# Altium schematic symbol library kmilo17pet-NSC_Interface.SchLib: 1433 symbols (part 6 of 51)
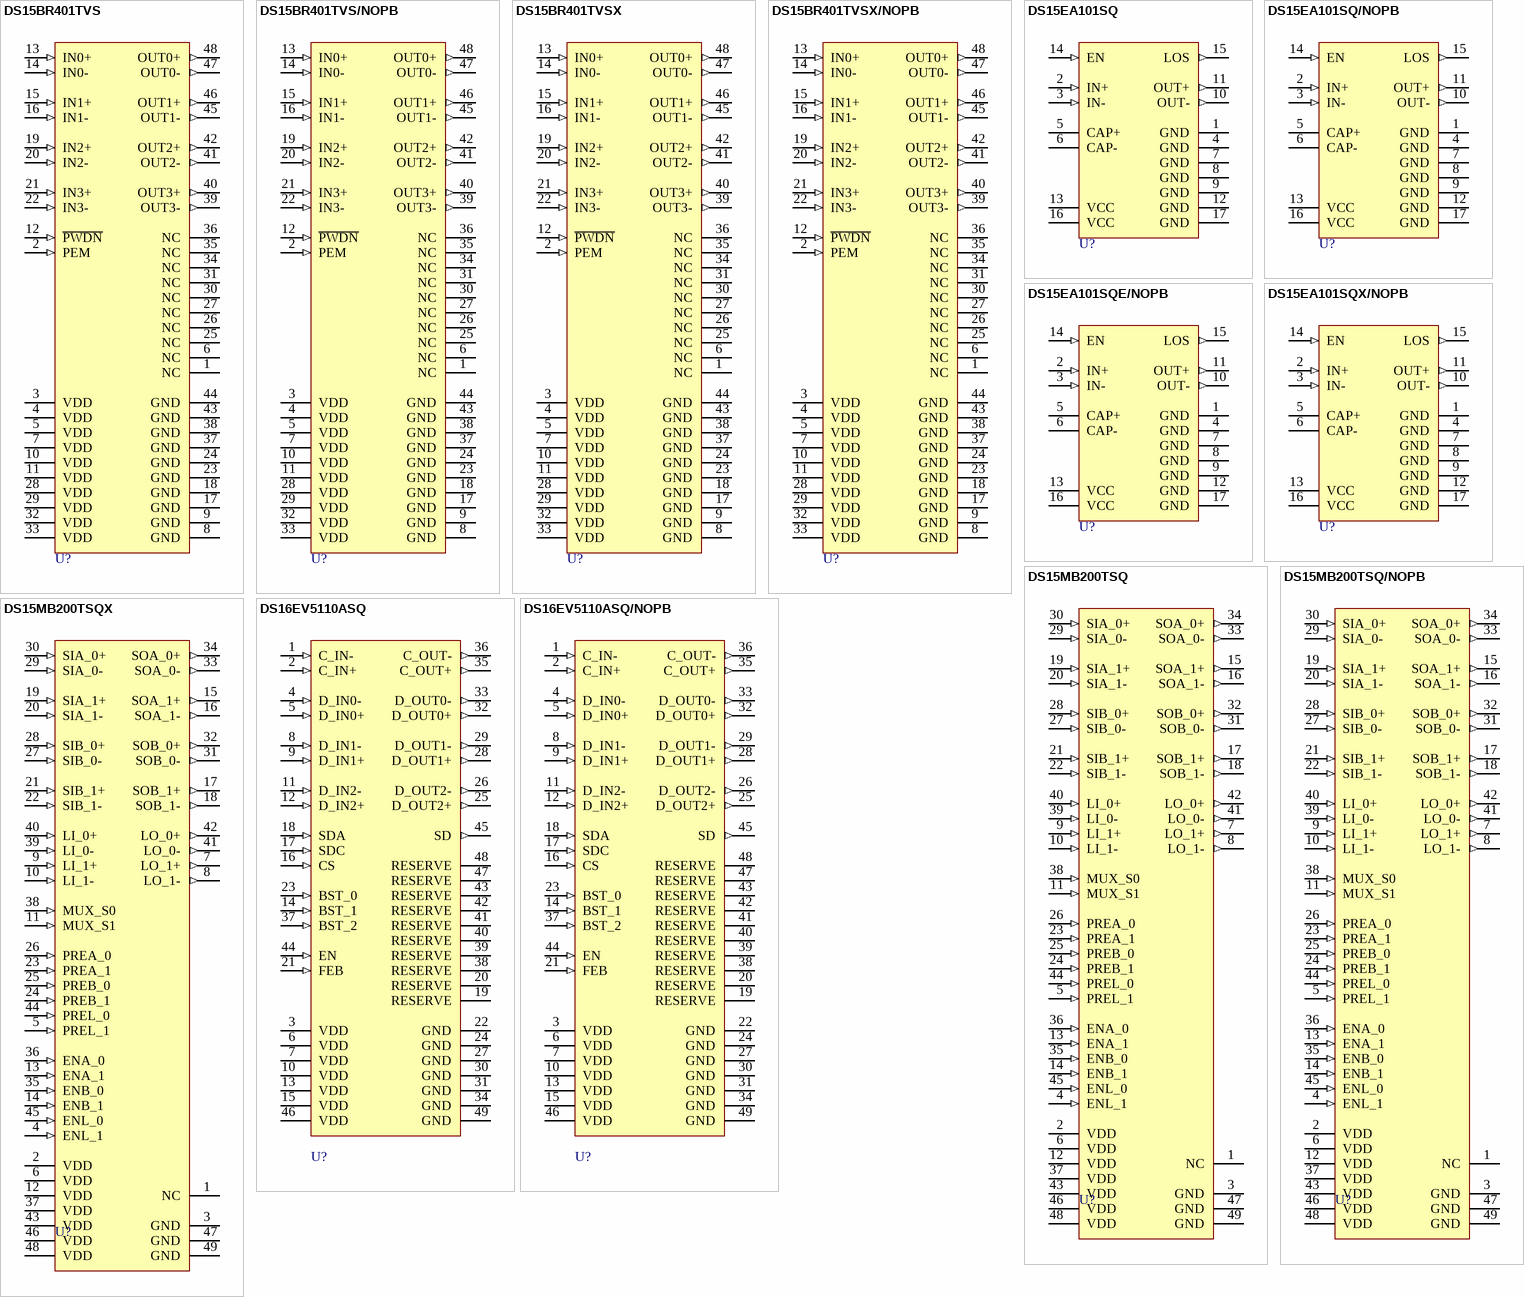
[diagram p129: symbols DS15BR401TVS to DS16EV5110ASQ/NOPB]

## DS15EA101SQE/NOPB
designator U?
0.15 to 1.5 Gbps Adaptive Cable Equalizer with LOS Detection, 16-pin LLP, Pb-Free; PartNumber: DS15EA101SQE/NOPB; Manufacturer: National Semiconductor; PackageTopMarking: NS*UZXYTT*15EA101; PowerWise: N; CompType: Interface IC; High-Reliability: Y; DatasheetVersion: Jan-2009; PackageVersion: revA, Oct-2003; PackageReference: SQA16A; PackageDescription: LLP, Plastic, Quad, 4 x 4 x 0.8mm Body, 16 Lead, 0.5mm Pitch, No Pullback; RoHS: Y; PinCount: 16; ComponentLink1Description: Manufacturer URL; ComponentLink1URL: http://www.national.com/; ComponentLink2Description: DS15EA101 Datasheet; ComponentLink2URL: http://www.national.com/ds/DS/DS15EA101.pdf; ComponentLink3Description: DS15EA101 Web Page; ComponentLink3URL: http://www.national.com/pf/DS/DS15EA101.html; ComponentLink4Description: SQA16A Package Page; ComponentLink4URL: http://www.national.com/packaging/folders/sqa16a.html
footprint SQA16A (QFN, 16-Leads, Body 4x4mm, Pitch 0.5mm, Thermal Pad 2.7x2.7mm, NSC Recommended)
pins: 1 GND (power), 2 IN+ (in), 3 IN- (in), 4 GND (power), 5 CAP+, 6 CAP-, 7 GND (power), 8 GND (power), 9 GND (power), 10 OUT- (out), 11 OUT+ (out), 12 GND (power), 13 VCC (power), 14 EN (in), 15 LOS (out), 16 VCC (power), 17 GND (power)

## DS15EA101SQX/NOPB
designator U?
0.15 to 1.5 Gbps Adaptive Cable Equalizer with LOS Detection, 16-pin LLP, Pb-Free; PartNumber: DS15EA101SQX/NOPB; Manufacturer: National Semiconductor; PackageTopMarking: NS*UZXYTT*15EA101; PowerWise: N; CompType: Interface IC; High-Reliability: Y; DatasheetVersion: Jan-2009; PackageVersion: revA, Oct-2003; PackageReference: SQA16A; PackageDescription: LLP, Plastic, Quad, 4 x 4 x 0.8mm Body, 16 Lead, 0.5mm Pitch, No Pullback; RoHS: Y; PinCount: 16; ComponentLink1Description: Manufacturer URL; ComponentLink1URL: http://www.national.com/; ComponentLink2Description: DS15EA101 Datasheet; ComponentLink2URL: http://www.national.com/ds/DS/DS15EA101.pdf; ComponentLink3Description: DS15EA101 Web Page; ComponentLink3URL: http://www.national.com/pf/DS/DS15EA101.html; ComponentLink4Description: SQA16A Package Page; ComponentLink4URL: http://www.national.com/packaging/folders/sqa16a.html
footprint SQA16A (QFN, 16-Leads, Body 4x4mm, Pitch 0.5mm, Thermal Pad 2.7x2.7mm, NSC Recommended)
pins: 1 GND (power), 2 IN+ (in), 3 IN- (in), 4 GND (power), 5 CAP+, 6 CAP-, 7 GND (power), 8 GND (power), 9 GND (power), 10 OUT- (out), 11 OUT+ (out), 12 GND (power), 13 VCC (power), 14 EN (in), 15 LOS (out), 16 VCC (power), 17 GND (power)

## DS15MB200TSQ
designator U?
Dual 1.5 Gbps 2:1/1:2 LVDS Mux/Buffer with Pre-Emphasis, 48-pin LLP; PartNumber: DS15MB200TSQ; Manufacturer: National Semiconductor; PackageTopMarking: NS*UZXYTTE#*15M200; PowerWise: N; CompType: Interface IC; High-Reliability: Y; DatasheetVersion: May-2006; PackageVersion: revB, May-2009; PackageReference: SQA48A; PackageDescription: LLP, Plastic, Quad, 7 x 7 x 0.8mm Body, 48 Lead, 0.5mm Pitch, No Pullback; RoHS: N; PinCount: 48; Code_JEDEC: MO-220-WKKD-2; ComponentLink1Description: Manufacturer URL; ComponentLink1URL: http://www.national.com/; ComponentLink2Description: DS15MB200 Datasheet; ComponentLink2URL: http://www.national.com/ds/DS/DS15MB200.pdf; ComponentLink3Description: DS15MB200 Web Page; ComponentLink3URL: http://www.national.com/pf/DS/DS15MB200.html; ComponentLink4Description: SQA48A Package Page; ComponentLink4URL: http://www.national.com/packaging/folders/sqa48a.html
footprint SQA48A (QFN, 48-Leads, Body 7x7mm, Pitch 0.5mm, Thermal Pad 5.2x5.2mm, NSC Recommended)
pins: 1 NC, 2 VDD (power), 3 GND (power), 4 ENL_1 (in), 5 PREL_1 (in), 6 VDD (power), 7 LO_1+ (out), 8 LO_1- (out), 9 LI_1+ (in), 10 LI_1- (in), 11 MUX_S1 (in), 12 VDD (power), 13 ENA_1 (in), 14 ENB_1 (in), 15 SOA_1+ (out), 16 SOA_1- (out), 17 SOB_1+ (out), 18 SOB_1- (out), 19 SIA_1+ (in), 20 SIA_1- (in), 21 SIB_1+ (in), 22 SIB_1- (in), 23 PREA_1 (in), 24 PREB_1 (in), 25 PREB_0 (in), 26 PREA_0 (in), 27 SIB_0- (in), 28 SIB_0+ (in), 29 SIA_0- (in), 30 SIA_0+ (in), 31 SOB_0- (out), 32 SOB_0+ (out), 33 SOA_0- (out), 34 SOA_0+ (out), 35 ENB_0 (in), 36 ENA_0 (in), 37 VDD (power), 38 MUX_S0 (in), 39 LI_0- (in), 40 LI_0+ (in), 41 LO_0- (out), 42 LO_0+ (out), 43 VDD (power), 44 PREL_0 (in), 45 ENL_0 (in), 46 VDD (power), 47 GND (power), 48 VDD (power), 49 GND (power)

## DS15MB200TSQ/NOPB
designator U?
Dual 1.5 Gbps 2:1/1:2 LVDS Mux/Buffer with Pre-Emphasis, 48-pin LLP, Pb-Free; PartNumber: DS15MB200TSQ/NOPB; Manufacturer: National Semiconductor; PackageTopMarking: NS*UZXYTTE#*15M200; PowerWise: N; CompType: Interface IC; High-Reliability: Y; DatasheetVersion: May-2006; PackageVersion: revB, May-2009; PackageReference: SQA48A; PackageDescription: LLP, Plastic, Quad, 7 x 7 x 0.8mm Body, 48 Lead, 0.5mm Pitch, No Pullback; RoHS: Y; PinCount: 48; Code_JEDEC: MO-220-WKKD-2; ComponentLink1Description: Manufacturer URL; ComponentLink1URL: http://www.national.com/; ComponentLink2Description: DS15MB200 Datasheet; ComponentLink2URL: http://www.national.com/ds/DS/DS15MB200.pdf; ComponentLink3Description: DS15MB200 Web Page; ComponentLink3URL: http://www.national.com/pf/DS/DS15MB200.html; ComponentLink4Description: SQA48A Package Page; ComponentLink4URL: http://www.national.com/packaging/folders/sqa48a.html
footprint SQA48A (QFN, 48-Leads, Body 7x7mm, Pitch 0.5mm, Thermal Pad 5.2x5.2mm, NSC Recommended)
pins: 1 NC, 2 VDD (power), 3 GND (power), 4 ENL_1 (in), 5 PREL_1 (in), 6 VDD (power), 7 LO_1+ (out), 8 LO_1- (out), 9 LI_1+ (in), 10 LI_1- (in), 11 MUX_S1 (in), 12 VDD (power), 13 ENA_1 (in), 14 ENB_1 (in), 15 SOA_1+ (out), 16 SOA_1- (out), 17 SOB_1+ (out), 18 SOB_1- (out), 19 SIA_1+ (in), 20 SIA_1- (in), 21 SIB_1+ (in), 22 SIB_1- (in), 23 PREA_1 (in), 24 PREB_1 (in), 25 PREB_0 (in), 26 PREA_0 (in), 27 SIB_0- (in), 28 SIB_0+ (in), 29 SIA_0- (in), 30 SIA_0+ (in), 31 SOB_0- (out), 32 SOB_0+ (out), 33 SOA_0- (out), 34 SOA_0+ (out), 35 ENB_0 (in), 36 ENA_0 (in), 37 VDD (power), 38 MUX_S0 (in), 39 LI_0- (in), 40 LI_0+ (in), 41 LO_0- (out), 42 LO_0+ (out), 43 VDD (power), 44 PREL_0 (in), 45 ENL_0 (in), 46 VDD (power), 47 GND (power), 48 VDD (power), 49 GND (power)

## DS15MB200TSQX
designator U?
Dual 1.5 Gbps 2:1/1:2 LVDS Mux/Buffer with Pre-Emphasis, 48-pin LLP; PartNumber: DS15MB200TSQX; Manufacturer: National Semiconductor; PackageTopMarking: NS*UZXYTT*15M200; PowerWise: N; CompType: Interface IC; High-Reliability: Y; DatasheetVersion: May-2006; PackageVersion: revB, May-2009; PackageReference: SQA48A; PackageDescription: LLP, Plastic, Quad, 7 x 7 x 0.8mm Body, 48 Lead, 0.5mm Pitch, No Pullback; RoHS: N; PinCount: 48; Code_JEDEC: MO-220-WKKD-2; ComponentLink1Description: Manufacturer URL; ComponentLink1URL: http://www.national.com/; ComponentLink2Description: DS15MB200 Datasheet; ComponentLink2URL: http://www.national.com/ds/DS/DS15MB200.pdf; ComponentLink3Description: DS15MB200 Web Page; ComponentLink3URL: http://www.national.com/pf/DS/DS15MB200.html; ComponentLink4Description: SQA48A Package Page; ComponentLink4URL: http://www.national.com/packaging/folders/sqa48a.html
footprint SQA48A (QFN, 48-Leads, Body 7x7mm, Pitch 0.5mm, Thermal Pad 5.2x5.2mm, NSC Recommended)
pins: 1 NC, 2 VDD (power), 3 GND (power), 4 ENL_1 (in), 5 PREL_1 (in), 6 VDD (power), 7 LO_1+ (out), 8 LO_1- (out), 9 LI_1+ (in), 10 LI_1- (in), 11 MUX_S1 (in), 12 VDD (power), 13 ENA_1 (in), 14 ENB_1 (in), 15 SOA_1+ (out), 16 SOA_1- (out), 17 SOB_1+ (out), 18 SOB_1- (out), 19 SIA_1+ (in), 20 SIA_1- (in), 21 SIB_1+ (in), 22 SIB_1- (in), 23 PREA_1 (in), 24 PREB_1 (in), 25 PREB_0 (in), 26 PREA_0 (in), 27 SIB_0- (in), 28 SIB_0+ (in), 29 SIA_0- (in), 30 SIA_0+ (in), 31 SOB_0- (out), 32 SOB_0+ (out), 33 SOA_0- (out), 34 SOA_0+ (out), 35 ENB_0 (in), 36 ENA_0 (in), 37 VDD (power), 38 MUX_S0 (in), 39 LI_0- (in), 40 LI_0+ (in), 41 LO_0- (out), 42 LO_0+ (out), 43 VDD (power), 44 PREL_0 (in), 45 ENL_0 (in), 46 VDD (power), 47 GND (power), 48 VDD (power), 49 GND (power)

## DS16EV5110ASQ
designator U?
Video Equalizer (3D+C) for DVI, HDMI Source/Repeater/Sink Applications, 48-pin LLP; PartNumber: DS16EV5110ASQ; Manufacturer: National Semiconductor; PackageTopMarking: NS*UZXYTT*D16EV511A; PowerWise: N; CompType: Interface IC; High-Reliability: Y; DatasheetVersion: Oct-2008; PackageVersion: revA, Jul-2004; PackageReference: SQA48D; PackageDescription: LLP, Quad, 7 x 7 x 0.8mm, 48 Lead, 0.5mm Pitch, 4.1 x 4.1 Exposed Pad; RoHS: Y; PinCount: 48; ComponentLink1Description: Manufacturer URL; ComponentLink1URL: http://www.national.com/; ComponentLink2Description: DS16EV5110A Datasheet; ComponentLink2URL: http://www.national.com/ds/DS/DS16EV5110A.pdf; ComponentLink3Description: DS16EV5110A Web Page; ComponentLink3URL: http://www.national.com/pf/DS/DS16EV5110A.html; ComponentLink4Description: SQA48D Package Page; ComponentLink4URL: http://www.national.com/packaging/folders/sqa48d.html
footprint SQA48D (QFN, 48-Leads, Body 7x7mm, Pitch 0.5mm, Thermal Pad 4.2x4.2mm, NSC Recommended)
pins: 1 C_IN- (in), 2 C_IN+ (in), 3 VDD (power), 4 D_IN0- (in), 5 D_IN0+ (in), 6 VDD (power), 7 VDD (power), 8 D_IN1- (in), 9 D_IN1+ (in), 10 VDD (power), 11 D_IN2- (in), 12 D_IN2+ (in), 13 VDD (power), 14 BST_1 (in), 15 VDD (power), 16 CS (in), 17 SDC (in), 18 SDA (in), 19 RESERVE, 20 RESERVE, 21 FEB (in), 22 GND (power), 23 BST_0 (in), 24 GND (power), 25 D_OUT2+ (out), 26 D_OUT2- (out), 27 GND (power), 28 D_OUT1+ (out), 29 D_OUT1- (out), 30 GND (power), 31 GND (power), 32 D_OUT0+ (out), 33 D_OUT0- (out), 34 GND (power), 35 C_OUT+ (out), 36 C_OUT- (out), 37 BST_2 (in), 38 RESERVE, 39 RESERVE, 40 RESERVE, 41 RESERVE, 42 RESERVE, 43 RESERVE, 44 EN (in), 45 SD (out), 46 VDD (power), 47 RESERVE, 48 RESERVE, 49 GND (power)

## DS16EV5110ASQ/NOPB
designator U?
Video Equalizer (3D+C) for DVI, HDMI Source/Repeater/Sink Applications, 48-pin LLP, Pb-Free; PartNumber: DS16EV5110ASQ/NOPB; Manufacturer: National Semiconductor; PackageTopMarking: NS*UZXYTTE#*D16EV511A; PowerWise: N; CompType: Interface IC; High-Reliability: Y; DatasheetVersion: Oct-2008; PackageVersion: revA, Jul-2004; PackageReference: SQA48D; PackageDescription: LLP, Quad, 7 x 7 x 0.8mm, 48 Lead, 0.5mm Pitch, 4.1 x 4.1 Exposed Pad; RoHS: Y; PinCount: 48; ComponentLink1Description: Manufacturer URL; ComponentLink1URL: http://www.national.com/; ComponentLink2Description: DS16EV5110A Datasheet; ComponentLink2URL: http://www.national.com/ds/DS/DS16EV5110A.pdf; ComponentLink3Description: DS16EV5110A Web Page; ComponentLink3URL: http://www.national.com/pf/DS/DS16EV5110A.html; ComponentLink4Description: SQA48D Package Page; ComponentLink4URL: http://www.national.com/packaging/folders/sqa48d.html
footprint SQA48D (QFN, 48-Leads, Body 7x7mm, Pitch 0.5mm, Thermal Pad 4.2x4.2mm, NSC Recommended)
pins: 1 C_IN- (in), 2 C_IN+ (in), 3 VDD (power), 4 D_IN0- (in), 5 D_IN0+ (in), 6 VDD (power), 7 VDD (power), 8 D_IN1- (in), 9 D_IN1+ (in), 10 VDD (power), 11 D_IN2- (in), 12 D_IN2+ (in), 13 VDD (power), 14 BST_1 (in), 15 VDD (power), 16 CS (in), 17 SDC (in), 18 SDA (in), 19 RESERVE, 20 RESERVE, 21 FEB (in), 22 GND (power), 23 BST_0 (in), 24 GND (power), 25 D_OUT2+ (out), 26 D_OUT2- (out), 27 GND (power), 28 D_OUT1+ (out), 29 D_OUT1- (out), 30 GND (power), 31 GND (power), 32 D_OUT0+ (out), 33 D_OUT0- (out), 34 GND (power), 35 C_OUT+ (out), 36 C_OUT- (out), 37 BST_2 (in), 38 RESERVE, 39 RESERVE, 40 RESERVE, 41 RESERVE, 42 RESERVE, 43 RESERVE, 44 EN (in), 45 SD (out), 46 VDD (power), 47 RESERVE, 48 RESERVE, 49 GND (power)

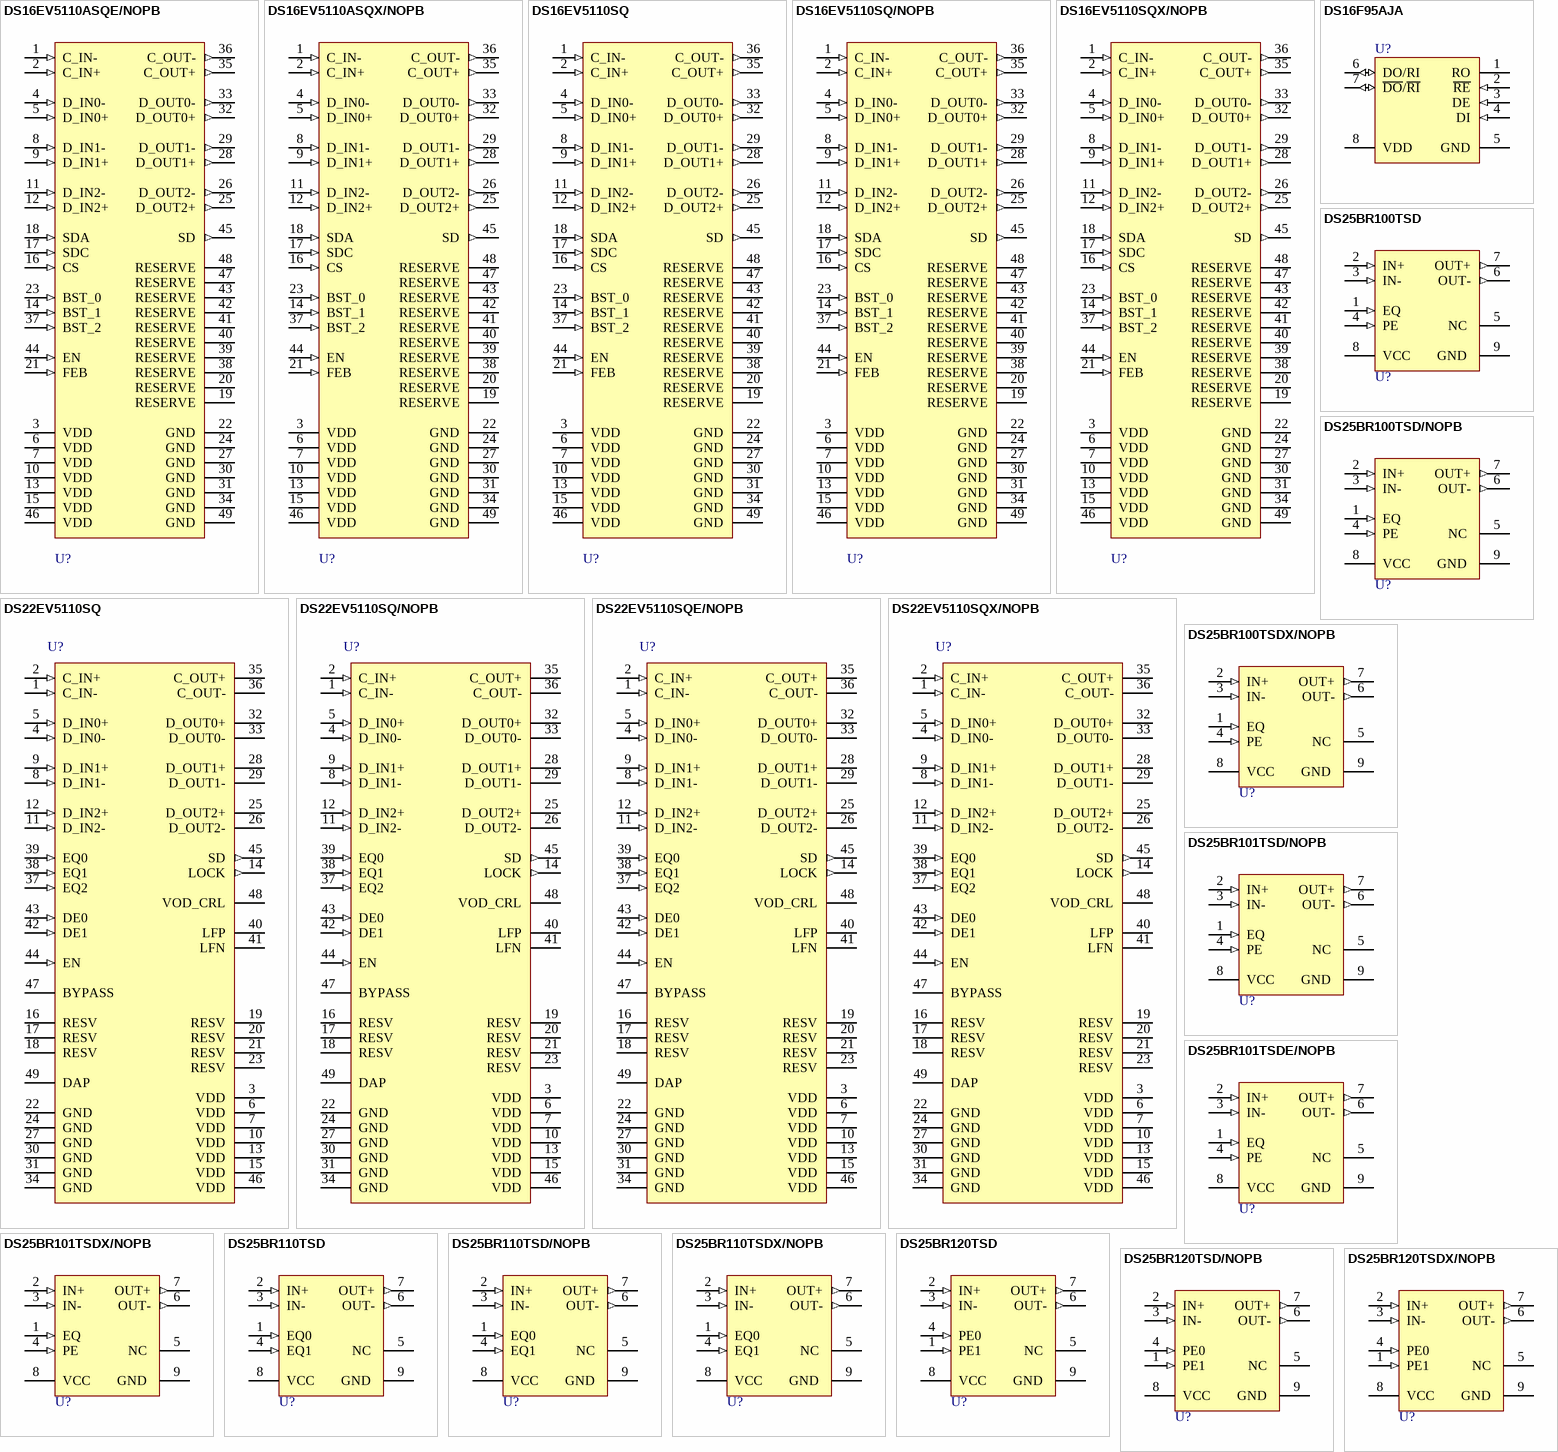
[diagram p18: symbols DS16EV5110ASQE/NOPB to DS25BR120TSDX/NOPB]

## DS16EV5110ASQE/NOPB
designator U?
Video Equalizer (3D+C) for DVI, HDMI Source/Repeater/Sink Applications, 48-pin LLP, Pb-Free; PartNumber: DS16EV5110ASQE/NOPB; Manufacturer: National Semiconductor; PackageTopMarking: NS*UZXYTTE#*D16EV511A; PowerWise: N; CompType: Interface IC; High-Reliability: Y; DatasheetVersion: Oct-2008; PackageVersion: revA, Jul-2004; PackageReference: SQA48D; PackageDescription: LLP, Quad, 7 x 7 x 0.8mm, 48 Lead, 0.5mm Pitch, 4.1 x 4.1 Exposed Pad; RoHS: Y; PinCount: 48; ComponentLink1Description: Manufacturer URL; ComponentLink1URL: http://www.national.com/; ComponentLink2Description: DS16EV5110A Datasheet; ComponentLink2URL: http://www.national.com/ds/DS/DS16EV5110A.pdf; ComponentLink3Description: DS16EV5110A Web Page; ComponentLink3URL: http://www.national.com/pf/DS/DS16EV5110A.html; ComponentLink4Description: SQA48D Package Page; ComponentLink4URL: http://www.national.com/packaging/folders/sqa48d.html
footprint SQA48D (QFN, 48-Leads, Body 7x7mm, Pitch 0.5mm, Thermal Pad 4.2x4.2mm, NSC Recommended)
pins: 1 C_IN- (in), 2 C_IN+ (in), 3 VDD (power), 4 D_IN0- (in), 5 D_IN0+ (in), 6 VDD (power), 7 VDD (power), 8 D_IN1- (in), 9 D_IN1+ (in), 10 VDD (power), 11 D_IN2- (in), 12 D_IN2+ (in), 13 VDD (power), 14 BST_1 (in), 15 VDD (power), 16 CS (in), 17 SDC (in), 18 SDA (in), 19 RESERVE, 20 RESERVE, 21 FEB (in), 22 GND (power), 23 BST_0 (in), 24 GND (power), 25 D_OUT2+ (out), 26 D_OUT2- (out), 27 GND (power), 28 D_OUT1+ (out), 29 D_OUT1- (out), 30 GND (power), 31 GND (power), 32 D_OUT0+ (out), 33 D_OUT0- (out), 34 GND (power), 35 C_OUT+ (out), 36 C_OUT- (out), 37 BST_2 (in), 38 RESERVE, 39 RESERVE, 40 RESERVE, 41 RESERVE, 42 RESERVE, 43 RESERVE, 44 EN (in), 45 SD (out), 46 VDD (power), 47 RESERVE, 48 RESERVE, 49 GND (power)

## DS16EV5110ASQX/NOPB
designator U?
Video Equalizer (3D+C) for DVI, HDMI Source/Repeater/Sink Applications, 48-pin LLP, Pb-Free; PartNumber: DS16EV5110ASQX/NOPB; Manufacturer: National Semiconductor; PackageTopMarking: NS*UZXYTTE#*D16EV511A; PowerWise: N; CompType: Interface IC; High-Reliability: Y; DatasheetVersion: Oct-2008; PackageVersion: revA, Jul-2004; PackageReference: SQA48D; PackageDescription: LLP, Quad, 7 x 7 x 0.8mm, 48 Lead, 0.5mm Pitch, 4.1 x 4.1 Exposed Pad; RoHS: Y; PinCount: 48; ComponentLink1Description: Manufacturer URL; ComponentLink1URL: http://www.national.com/; ComponentLink2Description: DS16EV5110A Datasheet; ComponentLink2URL: http://www.national.com/ds/DS/DS16EV5110A.pdf; ComponentLink3Description: DS16EV5110A Web Page; ComponentLink3URL: http://www.national.com/pf/DS/DS16EV5110A.html; ComponentLink4Description: SQA48D Package Page; ComponentLink4URL: http://www.national.com/packaging/folders/sqa48d.html
footprint SQA48D (QFN, 48-Leads, Body 7x7mm, Pitch 0.5mm, Thermal Pad 4.2x4.2mm, NSC Recommended)
pins: 1 C_IN- (in), 2 C_IN+ (in), 3 VDD (power), 4 D_IN0- (in), 5 D_IN0+ (in), 6 VDD (power), 7 VDD (power), 8 D_IN1- (in), 9 D_IN1+ (in), 10 VDD (power), 11 D_IN2- (in), 12 D_IN2+ (in), 13 VDD (power), 14 BST_1 (in), 15 VDD (power), 16 CS (in), 17 SDC (in), 18 SDA (in), 19 RESERVE, 20 RESERVE, 21 FEB (in), 22 GND (power), 23 BST_0 (in), 24 GND (power), 25 D_OUT2+ (out), 26 D_OUT2- (out), 27 GND (power), 28 D_OUT1+ (out), 29 D_OUT1- (out), 30 GND (power), 31 GND (power), 32 D_OUT0+ (out), 33 D_OUT0- (out), 34 GND (power), 35 C_OUT+ (out), 36 C_OUT- (out), 37 BST_2 (in), 38 RESERVE, 39 RESERVE, 40 RESERVE, 41 RESERVE, 42 RESERVE, 43 RESERVE, 44 EN (in), 45 SD (out), 46 VDD (power), 47 RESERVE, 48 RESERVE, 49 GND (power)

## DS16EV5110SQ
designator U?
Video Equalizer for DVI, HDMI, and CAT5 Cables, 48-pin LLP; PartNumber: DS16EV5110SQ; Manufacturer: National Semiconductor; PackageTopMarking: NS*UZXYTT*DS16EV511; PowerWise: N; CompType: Interface IC; High-Reliability: Y; DatasheetVersion: Jul-2008; PackageVersion: revA, Jul-2004; PackageReference: SQA48D; PackageDescription: LLP, Quad, 7 x 7 x 0.8mm, 48 Lead, 0.5mm Pitch, 4.1 x 4.1 Exposed Pad; RoHS: Y; PinCount: 48; ComponentLink1Description: Manufacturer URL; ComponentLink1URL: http://www.national.com/; ComponentLink2Description: DS16EV5110 Datasheet; ComponentLink2URL: http://www.national.com/ds/DS/DS16EV5110.pdf; ComponentLink3Description: DS16EV5110 Web Page; ComponentLink3URL: http://www.national.com/pf/DS/DS16EV5110.html; ComponentLink4Description: SQA48D Package Page; ComponentLink4URL: http://www.national.com/packaging/folders/sqa48d.html
footprint SQA48D (QFN, 48-Leads, Body 7x7mm, Pitch 0.5mm, Thermal Pad 4.2x4.2mm, NSC Recommended)
pins: 1 C_IN- (in), 2 C_IN+ (in), 3 VDD (power), 4 D_IN0- (in), 5 D_IN0+ (in), 6 VDD (power), 7 VDD (power), 8 D_IN1- (in), 9 D_IN1+ (in), 10 VDD (power), 11 D_IN2- (in), 12 D_IN2+ (in), 13 VDD (power), 14 BST_1 (in), 15 VDD (power), 16 CS (in), 17 SDC (in), 18 SDA (in), 19 RESERVE, 20 RESERVE, 21 FEB (in), 22 GND (power), 23 BST_0 (in), 24 GND (power), 25 D_OUT2+ (out), 26 D_OUT2- (out), 27 GND (power), 28 D_OUT1+ (out), 29 D_OUT1- (out), 30 GND (power), 31 GND (power), 32 D_OUT0+ (out), 33 D_OUT0- (out), 34 GND (power), 35 C_OUT+ (out), 36 C_OUT- (out), 37 BST_2 (in), 38 RESERVE, 39 RESERVE, 40 RESERVE, 41 RESERVE, 42 RESERVE, 43 RESERVE, 44 EN (in), 45 SD (out), 46 VDD (power), 47 RESERVE, 48 RESERVE, 49 GND (power)

## DS16EV5110SQ/NOPB
designator U?
Video Equalizer (3D+C) for DVI, HDMI Sink-Side Applications, 48-pin LLP, Pb-Free; PartNumber: DS16EV5110SQ/NOPB; Manufacturer: National Semiconductor; PackageTopMarking: NS*UZXYTTE#*DS16EV511; PowerWise: N; CompType: Interface IC; High-Reliability: Y; DatasheetVersion: Jul-2008; PackageVersion: revA, Jul-2004; PackageReference: SQA48D; PackageDescription: LLP, Quad, 7 x 7 x 0.8mm, 48 Lead, 0.5mm Pitch, 4.1 x 4.1 Exposed Pad; RoHS: Y; PinCount: 48; ComponentLink1Description: Manufacturer URL; ComponentLink1URL: http://www.national.com/; ComponentLink2Description: DS16EV5110 Datasheet; ComponentLink2URL: http://www.national.com/ds/DS/DS16EV5110.pdf; ComponentLink3Description: DS16EV5110 Web Page; ComponentLink3URL: http://www.national.com/pf/DS/DS16EV5110.html; ComponentLink4Description: SQA48D Package Page; ComponentLink4URL: http://www.national.com/packaging/folders/sqa48d.html
footprint SQA48D (QFN, 48-Leads, Body 7x7mm, Pitch 0.5mm, Thermal Pad 4.2x4.2mm, NSC Recommended)
pins: 1 C_IN- (in), 2 C_IN+ (in), 3 VDD (power), 4 D_IN0- (in), 5 D_IN0+ (in), 6 VDD (power), 7 VDD (power), 8 D_IN1- (in), 9 D_IN1+ (in), 10 VDD (power), 11 D_IN2- (in), 12 D_IN2+ (in), 13 VDD (power), 14 BST_1 (in), 15 VDD (power), 16 CS (in), 17 SDC (in), 18 SDA (in), 19 RESERVE, 20 RESERVE, 21 FEB (in), 22 GND (power), 23 BST_0 (in), 24 GND (power), 25 D_OUT2+ (out), 26 D_OUT2- (out), 27 GND (power), 28 D_OUT1+ (out), 29 D_OUT1- (out), 30 GND (power), 31 GND (power), 32 D_OUT0+ (out), 33 D_OUT0- (out), 34 GND (power), 35 C_OUT+ (out), 36 C_OUT- (out), 37 BST_2 (in), 38 RESERVE, 39 RESERVE, 40 RESERVE, 41 RESERVE, 42 RESERVE, 43 RESERVE, 44 EN (in), 45 SD (out), 46 VDD (power), 47 RESERVE, 48 RESERVE, 49 GND (power)

## DS16EV5110SQX/NOPB
designator U?
Video Equalizer (3D+C) for DVI, HDMI Sink-Side Applications, 48-pin LLP, Pb-Free; PartNumber: DS16EV5110SQX/NOPB; Manufacturer: National Semiconductor; PackageTopMarking: NS*UZXYTTE#*DS16EV511; PowerWise: N; CompType: Interface IC; High-Reliability: Y; DatasheetVersion: Jul-2008; PackageVersion: revA, Jul-2004; PackageReference: SQA48D; PackageDescription: LLP, Quad, 7 x 7 x 0.8mm, 48 Lead, 0.5mm Pitch, 4.1 x 4.1 Exposed Pad; RoHS: Y; PinCount: 48; ComponentLink1Description: Manufacturer URL; ComponentLink1URL: http://www.national.com/; ComponentLink2Description: DS16EV5110 Datasheet; ComponentLink2URL: http://www.national.com/ds/DS/DS16EV5110.pdf; ComponentLink3Description: DS16EV5110 Web Page; ComponentLink3URL: http://www.national.com/pf/DS/DS16EV5110.html; ComponentLink4Description: SQA48D Package Page; ComponentLink4URL: http://www.national.com/packaging/folders/sqa48d.html
footprint SQA48D (QFN, 48-Leads, Body 7x7mm, Pitch 0.5mm, Thermal Pad 4.2x4.2mm, NSC Recommended)
pins: 1 C_IN- (in), 2 C_IN+ (in), 3 VDD (power), 4 D_IN0- (in), 5 D_IN0+ (in), 6 VDD (power), 7 VDD (power), 8 D_IN1- (in), 9 D_IN1+ (in), 10 VDD (power), 11 D_IN2- (in), 12 D_IN2+ (in), 13 VDD (power), 14 BST_1 (in), 15 VDD (power), 16 CS (in), 17 SDC (in), 18 SDA (in), 19 RESERVE, 20 RESERVE, 21 FEB (in), 22 GND (power), 23 BST_0 (in), 24 GND (power), 25 D_OUT2+ (out), 26 D_OUT2- (out), 27 GND (power), 28 D_OUT1+ (out), 29 D_OUT1- (out), 30 GND (power), 31 GND (power), 32 D_OUT0+ (out), 33 D_OUT0- (out), 34 GND (power), 35 C_OUT+ (out), 36 C_OUT- (out), 37 BST_2 (in), 38 RESERVE, 39 RESERVE, 40 RESERVE, 41 RESERVE, 42 RESERVE, 43 RESERVE, 44 EN (in), 45 SD (out), 46 VDD (power), 47 RESERVE, 48 RESERVE, 49 GND (power)

## DS16F95AJA
designator U?
TIA/EIA-485-A (RS-485) Extended Temperature Differential Bus Transceiver, 8-pin CerDIP; PartNumber: DS16F95AJA; Manufacturer: National Semiconductor; PackageTopMarking: NSUZXYTT*DS16F95AJA; PowerWise: N; CompType: Interface IC; High-Reliability: Y; DatasheetVersion: Nov-2008; PackageVersion: revM, Jul-2002; PackageReference: J08A; PackageDescription: Cerdip, .400 x .310in Body, 8 Lead, .300in Centers, .100in Pitch; RoHS: N; PinCount: 8; ComponentLink1Description: Manufacturer URL; ComponentLink1URL: http://www.national.com/; ComponentLink2Description: DS16F95A Datasheet; ComponentLink2URL: http://www.national.com/ds/DS/DS16F95A.pdf; ComponentLink3Description: DS16F95A Web Page; ComponentLink3URL: http://www.national.com/pf/DS/DS16F95A.html; ComponentLink4Description: J08A Package Page; ComponentLink4URL: http://www.national.com/packaging/folders/j08a.html
footprint J08A (DIP, 8-Leads, Row Spacing 7.62mm, Pitch 2.54mm, Body 9.78x6.73mm)
pins: 1 RO (hiz), 2 ~{RE} (in), 3 DE (in), 4 DI (in), 5 GND (power), 6 DO/RI (io), 7 ~{DO}/~{RI} (io), 8 VDD (power)

## DS22EV5110SQ
designator U?
DVI, HDMI Extended Reach Equalizer with Retimer and Output De-Emphasis, 48-pin LLP; PartNumber: DS22EV5110SQ; Manufacturer: National Semiconductor; PackageTopMarking: NS*UZXYTT*22EV5110; PowerWise: N; CompType: Interface IC; High-Reliability: Y; DatasheetVersion: Feb-2010; PackageVersion: revB, May-2009; PackageReference: SQA48A; PackageDescription: LLP, Plastic, Quad, 7 x 7 x 0.8mm Body, 48 Lead, 0.5mm Pitch, No Pullback; RoHS: Y; PinCount: 48; Code_JEDEC: MO-220-WKKD-2; ComponentLink1Description: Manufacturer URL; ComponentLink1URL: http://www.national.com/; ComponentLink2Description: DS22EV5110 Datasheet; ComponentLink2URL: http://www.national.com/ds/DS/DS22EV5110.pdf; ComponentLink3Description: DS22EV5110 Web Page; ComponentLink3URL: http://www.national.com/pf/DS/DS22EV5110.html; ComponentLink4Description: SQA48A Package Page; ComponentLink4URL: http://www.national.com/packaging/folders/sqa48a.html
footprint SQA48A (QFN, 48-Leads, Body 7x7mm, Pitch 0.5mm, Thermal Pad 5.2x5.2mm, NSC Recommended)
pins: 1 C_IN- (in), 2 C_IN+ (in), 3 VDD (power), 4 D_IN0- (in), 5 D_IN0+ (in), 6 VDD (power), 7 VDD (power), 8 D_IN1- (in), 9 D_IN1+ (in), 10 VDD (power), 11 D_IN2- (in), 12 D_IN2+ (in), 13 VDD (power), 14 LOCK (out), 15 VDD (power), 16 RESV, 17 RESV, 18 RESV, 19 RESV, 20 RESV, 21 RESV, 22 GND (power), 23 RESV, 24 GND (power), 25 D_OUT2+ (oc), 26 D_OUT2- (oc), 27 GND (power), 28 D_OUT1+ (oc), 29 D_OUT1- (oc), 30 GND (power), 31 GND (power), 32 D_OUT0+ (oc), 33 D_OUT0- (oc), 34 GND (power), 35 C_OUT+ (oc), 36 C_OUT- (oc), 37 EQ2 (in), 38 EQ1 (in), 39 EQ0 (in), 40 LFP, 41 LFN, 42 DE1 (in), 43 DE0 (in), 44 EN (in), 45 SD (out), 46 VDD (power), 47 BYPASS, 48 VOD_CRL, 49 DAP

## DS22EV5110SQ/NOPB
designator U?
DVI, HDMI Extended Reach Equalizer with Retimer and Output De-Emphasis, 48-pin LLP, Pb-Free; PartNumber: DS22EV5110SQ/NOPB; Manufacturer: National Semiconductor; PackageTopMarking: NS*UZXYTTE#*22EV5110; PowerWise: N; CompType: Interface IC; High-Reliability: Y; DatasheetVersion: Feb-2010; PackageVersion: revB, May-2009; PackageReference: SQA48A; PackageDescription: LLP, Plastic, Quad, 7 x 7 x 0.8mm Body, 48 Lead, 0.5mm Pitch, No Pullback; RoHS: Y; PinCount: 48; Code_JEDEC: MO-220-WKKD-2; ComponentLink1Description: Manufacturer URL; ComponentLink1URL: http://www.national.com/; ComponentLink2Description: DS22EV5110 Datasheet; ComponentLink2URL: http://www.national.com/ds/DS/DS22EV5110.pdf; ComponentLink3Description: DS22EV5110 Web Page; ComponentLink3URL: http://www.national.com/pf/DS/DS22EV5110.html; ComponentLink4Description: SQA48A Package Page; ComponentLink4URL: http://www.national.com/packaging/folders/sqa48a.html
footprint SQA48A (QFN, 48-Leads, Body 7x7mm, Pitch 0.5mm, Thermal Pad 5.2x5.2mm, NSC Recommended)
pins: 1 C_IN- (in), 2 C_IN+ (in), 3 VDD (power), 4 D_IN0- (in), 5 D_IN0+ (in), 6 VDD (power), 7 VDD (power), 8 D_IN1- (in), 9 D_IN1+ (in), 10 VDD (power), 11 D_IN2- (in), 12 D_IN2+ (in), 13 VDD (power), 14 LOCK (out), 15 VDD (power), 16 RESV, 17 RESV, 18 RESV, 19 RESV, 20 RESV, 21 RESV, 22 GND (power), 23 RESV, 24 GND (power), 25 D_OUT2+ (oc), 26 D_OUT2- (oc), 27 GND (power), 28 D_OUT1+ (oc), 29 D_OUT1- (oc), 30 GND (power), 31 GND (power), 32 D_OUT0+ (oc), 33 D_OUT0- (oc), 34 GND (power), 35 C_OUT+ (oc), 36 C_OUT- (oc), 37 EQ2 (in), 38 EQ1 (in), 39 EQ0 (in), 40 LFP, 41 LFN, 42 DE1 (in), 43 DE0 (in), 44 EN (in), 45 SD (out), 46 VDD (power), 47 BYPASS, 48 VOD_CRL, 49 DAP

## DS22EV5110SQE/NOPB
designator U?
DVI, HDMI Extended Reach Equalizer with Retimer and Output De-Emphasis, 48-pin LLP, Pb-Free; PartNumber: DS22EV5110SQE/NOPB; Manufacturer: National Semiconductor; PackageTopMarking: NS*UZXYTTE#*22EV5110; PowerWise: N; CompType: Interface IC; High-Reliability: Y; DatasheetVersion: Feb-2010; PackageVersion: revB, May-2009; PackageReference: SQA48A; PackageDescription: LLP, Plastic, Quad, 7 x 7 x 0.8mm Body, 48 Lead, 0.5mm Pitch, No Pullback; RoHS: Y; PinCount: 48; Code_JEDEC: MO-220-WKKD-2; ComponentLink1Description: Manufacturer URL; ComponentLink1URL: http://www.national.com/; ComponentLink2Description: DS22EV5110 Datasheet; ComponentLink2URL: http://www.national.com/ds/DS/DS22EV5110.pdf; ComponentLink3Description: DS22EV5110 Web Page; ComponentLink3URL: http://www.national.com/pf/DS/DS22EV5110.html; ComponentLink4Description: SQA48A Package Page; ComponentLink4URL: http://www.national.com/packaging/folders/sqa48a.html
footprint SQA48A (QFN, 48-Leads, Body 7x7mm, Pitch 0.5mm, Thermal Pad 5.2x5.2mm, NSC Recommended)
pins: 1 C_IN- (in), 2 C_IN+ (in), 3 VDD (power), 4 D_IN0- (in), 5 D_IN0+ (in), 6 VDD (power), 7 VDD (power), 8 D_IN1- (in), 9 D_IN1+ (in), 10 VDD (power), 11 D_IN2- (in), 12 D_IN2+ (in), 13 VDD (power), 14 LOCK (out), 15 VDD (power), 16 RESV, 17 RESV, 18 RESV, 19 RESV, 20 RESV, 21 RESV, 22 GND (power), 23 RESV, 24 GND (power), 25 D_OUT2+ (oc), 26 D_OUT2- (oc), 27 GND (power), 28 D_OUT1+ (oc), 29 D_OUT1- (oc), 30 GND (power), 31 GND (power), 32 D_OUT0+ (oc), 33 D_OUT0- (oc), 34 GND (power), 35 C_OUT+ (oc), 36 C_OUT- (oc), 37 EQ2 (in), 38 EQ1 (in), 39 EQ0 (in), 40 LFP, 41 LFN, 42 DE1 (in), 43 DE0 (in), 44 EN (in), 45 SD (out), 46 VDD (power), 47 BYPASS, 48 VOD_CRL, 49 DAP

## DS22EV5110SQX/NOPB
designator U?
DVI, HDMI Extended Reach Equalizer with Retimer and Output De-Emphasis, 48-pin LLP, Pb-Free; PartNumber: DS22EV5110SQX/NOPB; Manufacturer: National Semiconductor; PackageTopMarking: NS*UZXYTTE#*22EV5110; PowerWise: N; CompType: Interface IC; High-Reliability: Y; DatasheetVersion: Feb-2010; PackageVersion: revB, May-2009; PackageReference: SQA48A; PackageDescription: LLP, Plastic, Quad, 7 x 7 x 0.8mm Body, 48 Lead, 0.5mm Pitch, No Pullback; RoHS: Y; PinCount: 48; Code_JEDEC: MO-220-WKKD-2; ComponentLink1Description: Manufacturer URL; ComponentLink1URL: http://www.national.com/; ComponentLink2Description: DS22EV5110 Datasheet; ComponentLink2URL: http://www.national.com/ds/DS/DS22EV5110.pdf; ComponentLink3Description: DS22EV5110 Web Page; ComponentLink3URL: http://www.national.com/pf/DS/DS22EV5110.html; ComponentLink4Description: SQA48A Package Page; ComponentLink4URL: http://www.national.com/packaging/folders/sqa48a.html
footprint SQA48A (QFN, 48-Leads, Body 7x7mm, Pitch 0.5mm, Thermal Pad 5.2x5.2mm, NSC Recommended)
pins: 1 C_IN- (in), 2 C_IN+ (in), 3 VDD (power), 4 D_IN0- (in), 5 D_IN0+ (in), 6 VDD (power), 7 VDD (power), 8 D_IN1- (in), 9 D_IN1+ (in), 10 VDD (power), 11 D_IN2- (in), 12 D_IN2+ (in), 13 VDD (power), 14 LOCK (out), 15 VDD (power), 16 RESV, 17 RESV, 18 RESV, 19 RESV, 20 RESV, 21 RESV, 22 GND (power), 23 RESV, 24 GND (power), 25 D_OUT2+ (oc), 26 D_OUT2- (oc), 27 GND (power), 28 D_OUT1+ (oc), 29 D_OUT1- (oc), 30 GND (power), 31 GND (power), 32 D_OUT0+ (oc), 33 D_OUT0- (oc), 34 GND (power), 35 C_OUT+ (oc), 36 C_OUT- (oc), 37 EQ2 (in), 38 EQ1 (in), 39 EQ0 (in), 40 LFP, 41 LFN, 42 DE1 (in), 43 DE0 (in), 44 EN (in), 45 SD (out), 46 VDD (power), 47 BYPASS, 48 VOD_CRL, 49 DAP

## DS25BR100TSD
designator U?
3.125 Gbps LVDS Buffer with Transmit Pre-Emphasis and Receive Equalization, 8-pin LLP; PartNumber: DS25BR100TSD; Manufacturer: National Semiconductor; PackageTopMarking: ZXYTT*2R100; PowerWise: Y; CompType: Interface IC; DatasheetVersion: Aug-2009; PackageVersion: revA, Aug-2003; PackageReference: SDA08A; PackageDescription: LLP, Plastic, Dual, 3 x 3 x 0.8mm Body, 8 Lead, 0.5mm Pitch, No Pullback; RoHS: Y; PinCount: 8; High-Reliability: Y; ComponentLink1Description: Manufacturer URL; ComponentLink1URL: http://www.national.com/; ComponentLink2Description: DS25BR100 Datasheet; ComponentLink2URL: http://www.national.com/ds/DS/DS25BR101.pdf; ComponentLink3Description: DS25BR100 Web Page; ComponentLink3URL: http://www.national.com/pf/DS/DS25BR100.html; ComponentLink4Description: SDA08A Package Page; ComponentLink4URL: http://www.national.com/packaging/folders/sda08a.html
footprint SDA08A (SON, 8-Leads, Body 3x3mm, Pitch 0.5mm, NSC Recommended)
pins: 1 EQ  (in), 2 IN+  (in), 3 IN- (in), 4 PE (in), 5 NC , 6 OUT- (out), 7 OUT+ (out), 8 VCC  (power), 9 GND  (power)

## DS25BR100TSD/NOPB
designator U?
3.125 Gbps LVDS Buffer with Transmit Pre-Emphasis and Receive Equalization, 8-pin LLP, Pb-Free; PartNumber: DS25BR100TSD/NOPB; Manufacturer: National Semiconductor; PackageTopMarking: ZXYTT*2R100; PowerWise: Y; CompType: Interface IC; DatasheetVersion: Aug-2009; PackageVersion: revA, Aug-2003; PackageReference: SDA08A; PackageDescription: LLP, Plastic, Dual, 3 x 3 x 0.8mm Body, 8 Lead, 0.5mm Pitch, No Pullback; RoHS: Y; PinCount: 8; High-Reliability: Y; ComponentLink1Description: Manufacturer URL; ComponentLink1URL: http://www.national.com/; ComponentLink2Description: DS25BR100 Datasheet; ComponentLink2URL: http://www.national.com/ds/DS/DS25BR100.pdf; ComponentLink3Description: DS25BR100 Web Page; ComponentLink3URL: http://www.national.com/pf/DS/DS25BR100.html; ComponentLink4Description: SDA08A Package Page; ComponentLink4URL: http://www.national.com/packaging/folders/sda08a.html
footprint SDA08A (SON, 8-Leads, Body 3x3mm, Pitch 0.5mm, NSC Recommended)
pins: 1 EQ  (in), 2 IN+  (in), 3 IN- (in), 4 PE (in), 5 NC , 6 OUT- (out), 7 OUT+ (out), 8 VCC  (power), 9 GND  (power)

## DS25BR100TSDX/NOPB
designator U?
3.125 Gbps LVDS Buffer with Transmit Pre-Emphasis and Receive Equalization, 8-pin LLP, Pb-Free; PartNumber: DS25BR100TSDX/NOPB; Manufacturer: National Semiconductor; PackageTopMarking: ZXYTT*2R100; PowerWise: Y; CompType: Interface IC; DatasheetVersion: Aug-2009; PackageVersion: revA, Aug-2003; PackageReference: SDA08A; PackageDescription: LLP, Plastic, Dual, 3 x 3 x 0.8mm Body, 8 Lead, 0.5mm Pitch, No Pullback; RoHS: Y; PinCount: 8; High-Reliability: Y; ComponentLink1Description: Manufacturer URL; ComponentLink1URL: http://www.national.com/; ComponentLink2Description: DS25BR100 Datasheet; ComponentLink2URL: http://www.national.com/ds/DS/DS25BR100.pdf; ComponentLink3Description: DS25BR100 Web Page; ComponentLink3URL: http://www.national.com/pf/DS/DS25BR100.html; ComponentLink4Description: SDA08A Package Page; ComponentLink4URL: http://www.national.com/packaging/folders/sda08a.html
footprint SDA08A (SON, 8-Leads, Body 3x3mm, Pitch 0.5mm, NSC Recommended)
pins: 1 EQ  (in), 2 IN+  (in), 3 IN- (in), 4 PE (in), 5 NC , 6 OUT- (out), 7 OUT+ (out), 8 VCC  (power), 9 GND  (power)

## DS25BR101TSD/NOPB
designator U?
3.125 Gbps LVDS Buffer with Transmit Pre-Emphasis and Receive Equalization, 8-pin LLP, Pb-Free; PartNumber: DS25BR101TSD/NOPB; Manufacturer: National Semiconductor; PackageTopMarking: ZXYTT*2R101; PowerWise: Y; CompType: Interface IC; DatasheetVersion: Aug-2009; PackageVersion: revA, Aug-2003; PackageReference: SDA08A; PackageDescription: LLP, Plastic, Dual, 3 x 3 x 0.8mm Body, 8 Lead, 0.5mm Pitch, No Pullback; RoHS: Y; PinCount: 8; High-Reliability: Y; ComponentLink1Description: Manufacturer URL; ComponentLink1URL: http://www.national.com/; ComponentLink2Description: DS25BR101 Datasheet; ComponentLink2URL: http://www.national.com/ds/DS/DS25BR101.pdf; ComponentLink3Description: DS25BR101 Web Page; ComponentLink3URL: http://www.national.com/pf/DS/DS25BR101.html; ComponentLink4Description: SDA08A Package Page; ComponentLink4URL: http://www.national.com/packaging/folders/sda08a.html
footprint SDA08A (SON, 8-Leads, Body 3x3mm, Pitch 0.5mm, NSC Recommended)
pins: 1 EQ  (in), 2 IN+  (in), 3 IN- (in), 4 PE (in), 5 NC , 6 OUT- (out), 7 OUT+ (out), 8 VCC  (power), 9 GND  (power)

## DS25BR101TSDE/NOPB
designator U?
3.125 Gbps LVDS Buffer with Transmit Pre-Emphasis and Receive Equalization, 8-pin LLP, Pb-Free; PartNumber: DS25BR101TSDE/NOPB; Manufacturer: National Semiconductor; PackageTopMarking: ZXYTT*2R101; PowerWise: Y; CompType: Interface IC; DatasheetVersion: Aug-2009; PackageVersion: revA, Aug-2003; PackageReference: SDA08A; PackageDescription: LLP, Plastic, Dual, 3 x 3 x 0.8mm Body, 8 Lead, 0.5mm Pitch, No Pullback; RoHS: Y; PinCount: 8; High-Reliability: Y; ComponentLink1Description: Manufacturer URL; ComponentLink1URL: http://www.national.com/; ComponentLink2Description: DS25BR101 Datasheet; ComponentLink2URL: http://www.national.com/ds/DS/DS25BR101.pdf; ComponentLink3Description: DS25BR101 Web Page; ComponentLink3URL: http://www.national.com/pf/DS/DS25BR101.html; ComponentLink4Description: SDA08A Package Page; ComponentLink4URL: http://www.national.com/packaging/folders/sda08a.html
footprint SDA08A (SON, 8-Leads, Body 3x3mm, Pitch 0.5mm, NSC Recommended)
pins: 1 EQ  (in), 2 IN+  (in), 3 IN- (in), 4 PE (in), 5 NC , 6 OUT- (out), 7 OUT+ (out), 8 VCC  (power), 9 GND  (power)

## DS25BR101TSDX/NOPB
designator U?
3.125 Gbps LVDS Buffer with Transmit Pre-Emphasis and Receive Equalization, 8-pin LLP, Pb-Free; PartNumber: DS25BR101TSDX/NOPB; Manufacturer: National Semiconductor; PackageTopMarking: ZXYTT*2R101; PowerWise: Y; CompType: Interface IC; DatasheetVersion: Aug-2009; PackageVersion: revA, Aug-2003; PackageReference: SDA08A; PackageDescription: LLP, Plastic, Dual, 3 x 3 x 0.8mm Body, 8 Lead, 0.5mm Pitch, No Pullback; RoHS: Y; PinCount: 8; High-Reliability: Y; ComponentLink1Description: Manufacturer URL; ComponentLink1URL: http://www.national.com/; ComponentLink2Description: DS25BR101 Datasheet; ComponentLink2URL: http://www.national.com/ds/DS/DS25BR101.pdf; ComponentLink3Description: DS25BR101 Web Page; ComponentLink3URL: http://www.national.com/pf/DS/DS25BR101.html; ComponentLink4Description: SDA08A Package Page; ComponentLink4URL: http://www.national.com/packaging/folders/sda08a.html
footprint SDA08A (SON, 8-Leads, Body 3x3mm, Pitch 0.5mm, NSC Recommended)
pins: 1 EQ  (in), 2 IN+  (in), 3 IN- (in), 4 PE (in), 5 NC , 6 OUT- (out), 7 OUT+ (out), 8 VCC  (power), 9 GND  (power)

## DS25BR110TSD
designator U?
3.125 Gbps LVDS Buffer with Receive Equalization, 8-pin LLP; PartNumber: DS25BR110TSD; Manufacturer: National Semiconductor; PackageTopMarking: ZXYTT*2R110; PowerWise: Y; CompType: Interface IC; DatasheetVersion: Nov-2007; PackageVersion: revA, Aug-2003; PackageReference: SDA08A; PackageDescription: LLP, Plastic, Dual, 3 x 3 x 0.8mm Body, 8 Lead, 0.5mm Pitch, No Pullback; RoHS: Y; PinCount: 8; High-Reliability: Y; ComponentLink1Description: Manufacturer URL; ComponentLink1URL: http://www.national.com/; ComponentLink2Description: DS25BR110 Datasheet; ComponentLink2URL: http://www.national.com/ds/DS/DS25BR110.pdf; ComponentLink3Description: DS25BR110 Web Page; ComponentLink3URL: http://www.national.com/pf/DS/DS25BR110.html; ComponentLink4Description: SDA08A Package Page; ComponentLink4URL: http://www.national.com/packaging/folders/sda08a.html
footprint SDA08A (SON, 8-Leads, Body 3x3mm, Pitch 0.5mm, NSC Recommended)
pins: 1 EQ0  (in), 2 IN+  (in), 3 IN- (in), 4 EQ1 (in), 5 NC , 6 OUT- (out), 7 OUT+ (out), 8 VCC  (power), 9 GND  (power)

## DS25BR110TSD/NOPB
designator U?
3.125 Gbps LVDS Buffer with Receive Equalization, 8-pin LLP, Pb-Free; PartNumber: DS25BR110TSD/NOPB; Manufacturer: National Semiconductor; PackageTopMarking: ZXYTT*2R110; PowerWise: Y; CompType: Interface IC; DatasheetVersion: Nov-2007; PackageVersion: revA, Aug-2003; PackageReference: SDA08A; PackageDescription: LLP, Plastic, Dual, 3 x 3 x 0.8mm Body, 8 Lead, 0.5mm Pitch, No Pullback; RoHS: Y; PinCount: 8; High-Reliability: Y; ComponentLink1Description: Manufacturer URL; ComponentLink1URL: http://www.national.com/; ComponentLink2Description: DS25BR110 Datasheet; ComponentLink2URL: http://www.national.com/ds/DS/DS25BR110.pdf; ComponentLink3Description: DS25BR110 Web Page; ComponentLink3URL: http://www.national.com/pf/DS/DS25BR110.html; ComponentLink4Description: SDA08A Package Page; ComponentLink4URL: http://www.national.com/packaging/folders/sda08a.html
footprint SDA08A (SON, 8-Leads, Body 3x3mm, Pitch 0.5mm, NSC Recommended)
pins: 1 EQ0  (in), 2 IN+  (in), 3 IN- (in), 4 EQ1 (in), 5 NC , 6 OUT- (out), 7 OUT+ (out), 8 VCC  (power), 9 GND  (power)

## DS25BR110TSDX/NOPB
designator U?
3.125 Gbps LVDS Buffer with Receive Equalization, 8-pin LLP, Pb-Free; PartNumber: DS25BR110TSDX/NOPB; Manufacturer: National Semiconductor; PackageTopMarking: ZXYTT*2R110; PowerWise: Y; CompType: Interface IC; DatasheetVersion: Nov-2007; PackageVersion: revA, Aug-2003; PackageReference: SDA08A; PackageDescription: LLP, Plastic, Dual, 3 x 3 x 0.8mm Body, 8 Lead, 0.5mm Pitch, No Pullback; RoHS: Y; PinCount: 8; High-Reliability: Y; ComponentLink1Description: Manufacturer URL; ComponentLink1URL: http://www.national.com/; ComponentLink2Description: DS25BR110 Datasheet; ComponentLink2URL: http://www.national.com/ds/DS/DS25BR110.pdf; ComponentLink3Description: DS25BR110 Web Page; ComponentLink3URL: http://www.national.com/pf/DS/DS25BR110.html; ComponentLink4Description: SDA08A Package Page; ComponentLink4URL: http://www.national.com/packaging/folders/sda08a.html
footprint SDA08A (SON, 8-Leads, Body 3x3mm, Pitch 0.5mm, NSC Recommended)
pins: 1 EQ0  (in), 2 IN+  (in), 3 IN- (in), 4 EQ1 (in), 5 NC , 6 OUT- (out), 7 OUT+ (out), 8 VCC  (power), 9 GND  (power)

## DS25BR120TSD
designator U?
3.125 Gbps LVDS Buffer with Transmit Pre-Emphasis, 8-pin LLP; PartNumber: DS25BR120TSD; Manufacturer: National Semiconductor; PackageTopMarking: ZXYTT*2R120; PowerWise: Y; CompType: Interface IC; DatasheetVersion: Nov-2007; PackageVersion: revA, Aug-2003; PackageReference: SDA08A; PackageDescription: LLP, Plastic, Dual, 3 x 3 x 0.8mm Body, 8 Lead, 0.5mm Pitch, No Pullback; RoHS: Y; PinCount: 8; High-Reliability: Y; ComponentLink1Description: Manufacturer URL; ComponentLink1URL: http://www.national.com/; ComponentLink2Description: DS25BR120 Datasheet; ComponentLink2URL: http://www.national.com/ds/DS/DS25BR120.pdf; ComponentLink3Description: DS25BR120 Web Page; ComponentLink3URL: http://www.national.com/pf/DS/DS25BR120.html; ComponentLink4Description: SDA08A Package Page; ComponentLink4URL: http://www.national.com/packaging/folders/sda08a.html
footprint SDA08A (SON, 8-Leads, Body 3x3mm, Pitch 0.5mm, NSC Recommended)
pins: 1 PE1  (in), 2 IN+  (in), 3 IN- (in), 4 PE0 (in), 5 NC , 6 OUT- (out), 7 OUT+ (out), 8 VCC  (power), 9 GND  (power)

## DS25BR120TSD/NOPB
designator U?
3.125 Gbps LVDS Buffer with Transmit Pre-Emphasis, 8-pin LLP, Pb-Free; PartNumber: DS25BR120TSD/NOPB; Manufacturer: National Semiconductor; PackageTopMarking: ZXYTT*2R120; PowerWise: Y; CompType: Interface IC; DatasheetVersion: Nov-2007; PackageVersion: revA, Aug-2003; PackageReference: SDA08A; PackageDescription: LLP, Plastic, Dual, 3 x 3 x 0.8mm Body, 8 Lead, 0.5mm Pitch, No Pullback; RoHS: Y; PinCount: 8; High-Reliability: Y; ComponentLink1Description: Manufacturer URL; ComponentLink1URL: http://www.national.com/; ComponentLink2Description: DS25BR120 Datasheet; ComponentLink2URL: http://www.national.com/ds/DS/DS25BR120.pdf; ComponentLink3Description: DS25BR120 Web Page; ComponentLink3URL: http://www.national.com/pf/DS/DS25BR120.html; ComponentLink4Description: SDA08A Package Page; ComponentLink4URL: http://www.national.com/packaging/folders/sda08a.html
footprint SDA08A (SON, 8-Leads, Body 3x3mm, Pitch 0.5mm, NSC Recommended)
pins: 1 PE1  (in), 2 IN+  (in), 3 IN- (in), 4 PE0 (in), 5 NC , 6 OUT- (out), 7 OUT+ (out), 8 VCC  (power), 9 GND  (power)

## DS25BR120TSDX/NOPB
designator U?
3.125 Gbps LVDS Buffer with Transmit Pre-Emphasis, 8-pin LLP, Pb-Free; PartNumber: DS25BR120TSDX/NOPB; Manufacturer: National Semiconductor; PackageTopMarking: ZXYTT*2R120; PowerWise: Y; CompType: Interface IC; DatasheetVersion: Nov-2007; PackageVersion: revA, Aug-2003; PackageReference: SDA08A; PackageDescription: LLP, Plastic, Dual, 3 x 3 x 0.8mm Body, 8 Lead, 0.5mm Pitch, No Pullback; RoHS: Y; PinCount: 8; High-Reliability: Y; ComponentLink1Description: Manufacturer URL; ComponentLink1URL: http://www.national.com/; ComponentLink2Description: DS25BR120 Datasheet; ComponentLink2URL: http://www.national.com/ds/DS/DS25BR120.pdf; ComponentLink3Description: DS25BR120 Web Page; ComponentLink3URL: http://www.national.com/pf/DS/DS25BR120.html; ComponentLink4Description: SDA08A Package Page; ComponentLink4URL: http://www.national.com/packaging/folders/sda08a.html
footprint SDA08A (SON, 8-Leads, Body 3x3mm, Pitch 0.5mm, NSC Recommended)
pins: 1 PE1  (in), 2 IN+  (in), 3 IN- (in), 4 PE0 (in), 5 NC , 6 OUT- (out), 7 OUT+ (out), 8 VCC  (power), 9 GND  (power)

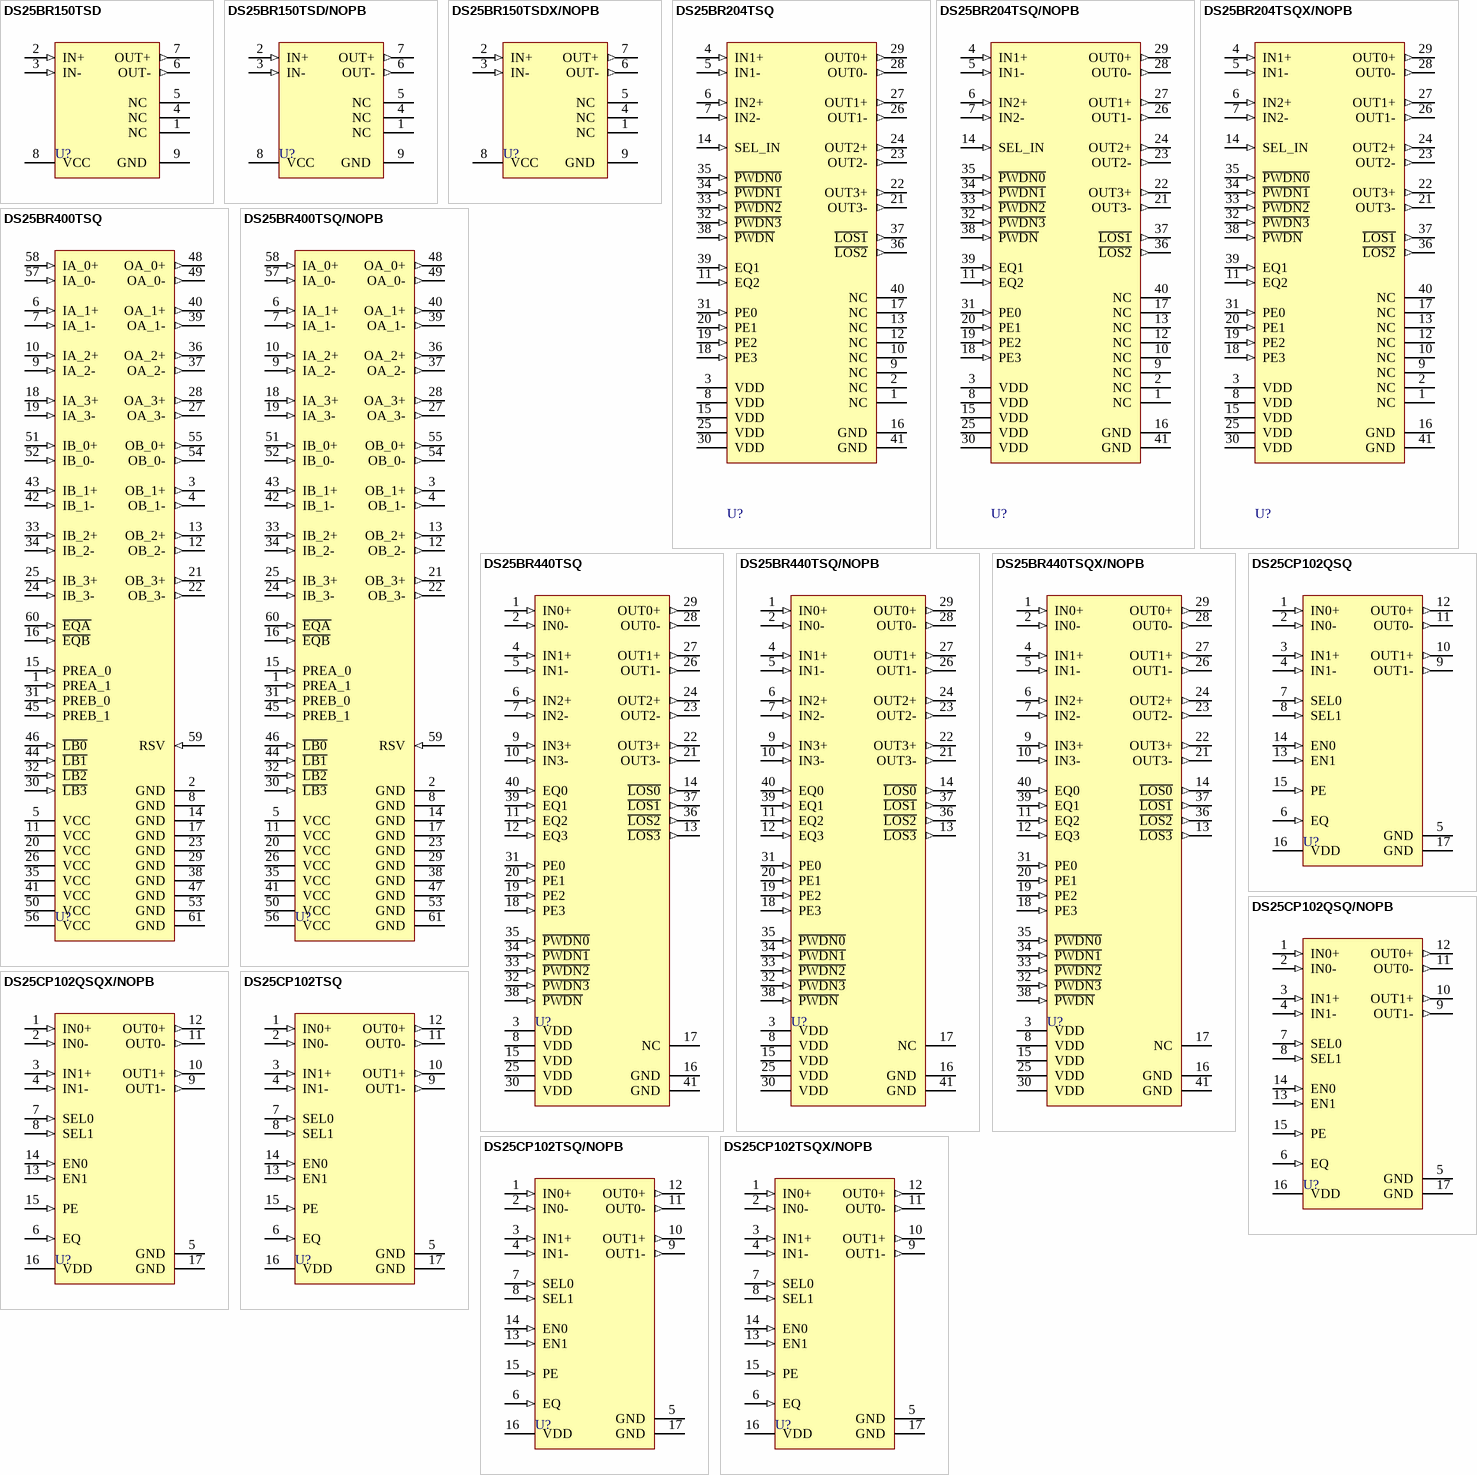
[diagram p19: symbols DS25BR150TSD to DS25CP102TSQX/NOPB]

## DS25BR150TSD
designator U?
3.125 Gbps LVDS Buffer, 8-pin LLP; PartNumber: DS25BR150TSD; Manufacturer: National Semiconductor; PackageTopMarking: ZXYTT*2R150; PowerWise: Y; CompType: Interface IC; DatasheetVersion: Nov-2007; PackageVersion: revA, Aug-2003; PackageReference: SDA08A; PackageDescription: LLP, Plastic, Dual, 3 x 3 x 0.8mm Body, 8 Lead, 0.5mm Pitch, No Pullback; RoHS: Y; PinCount: 8; High-Reliability: Y; ComponentLink1Description: Manufacturer URL; ComponentLink1URL: http://www.national.com/; ComponentLink2Description: DS25BR150 Datasheet; ComponentLink2URL: http://www.national.com/ds/DS/DS25BR150.pdf; ComponentLink3Description: DS25BR150 Web Page; ComponentLink3URL: http://www.national.com/pf/DS/DS25BR150.html; ComponentLink4Description: SDA08A Package Page; ComponentLink4URL: http://www.national.com/packaging/folders/sda08a.html
footprint SDA08A (SON, 8-Leads, Body 3x3mm, Pitch 0.5mm, NSC Recommended)
pins: 1 NC , 2 IN+  (in), 3 IN- (in), 4 NC , 5 NC , 6 OUT- (out), 7 OUT+ (out), 8 VCC  (power), 9 GND  (power)

## DS25BR150TSD/NOPB
designator U?
3.125 Gbps LVDS Buffer, 8-pin LLP, Pb-Free; PartNumber: DS25BR150TSD/NOPB; Manufacturer: National Semiconductor; PackageTopMarking: ZXYTT*2R150; PowerWise: Y; CompType: Interface IC; DatasheetVersion: Nov-2007; PackageVersion: revA, Aug-2003; PackageReference: SDA08A; PackageDescription: LLP, Plastic, Dual, 3 x 3 x 0.8mm Body, 8 Lead, 0.5mm Pitch, No Pullback; RoHS: Y; PinCount: 8; High-Reliability: Y; ComponentLink1Description: Manufacturer URL; ComponentLink1URL: http://www.national.com/; ComponentLink2Description: DS25BR150 Datasheet; ComponentLink2URL: http://www.national.com/ds/DS/DS25BR150.pdf; ComponentLink3Description: DS25BR150 Web Page; ComponentLink3URL: http://www.national.com/pf/DS/DS25BR150.html; ComponentLink4Description: SDA08A Package Page; ComponentLink4URL: http://www.national.com/packaging/folders/sda08a.html
footprint SDA08A (SON, 8-Leads, Body 3x3mm, Pitch 0.5mm, NSC Recommended)
pins: 1 NC , 2 IN+  (in), 3 IN- (in), 4 NC , 5 NC , 6 OUT- (out), 7 OUT+ (out), 8 VCC  (power), 9 GND  (power)

## DS25BR150TSDX/NOPB
designator U?
3.125 Gbps LVDS Buffer, 8-pin LLP, Pb-Free; PartNumber: DS25BR150TSDX/NOPB; Manufacturer: National Semiconductor; PackageTopMarking: ZXYTT*2R150; PowerWise: Y; CompType: Interface IC; DatasheetVersion: Nov-2007; PackageVersion: revA, Aug-2003; PackageReference: SDA08A; PackageDescription: LLP, Plastic, Dual, 3 x 3 x 0.8mm Body, 8 Lead, 0.5mm Pitch, No Pullback; RoHS: Y; PinCount: 8; High-Reliability: Y; ComponentLink1Description: Manufacturer URL; ComponentLink1URL: http://www.national.com/; ComponentLink2Description: DS25BR150 Datasheet; ComponentLink2URL: http://www.national.com/ds/DS/DS25BR150.pdf; ComponentLink3Description: DS25BR150 Web Page; ComponentLink3URL: http://www.national.com/pf/DS/DS25BR150.html; ComponentLink4Description: SDA08A Package Page; ComponentLink4URL: http://www.national.com/packaging/folders/sda08a.html
footprint SDA08A (SON, 8-Leads, Body 3x3mm, Pitch 0.5mm, NSC Recommended)
pins: 1 NC , 2 IN+  (in), 3 IN- (in), 4 NC , 5 NC , 6 OUT- (out), 7 OUT+ (out), 8 VCC  (power), 9 GND  (power)

## DS25BR204TSQ
designator U?
3.125 Gbps 1:4 LVDS Repeater with Transmit Pre-Emphasis and Receive Equalization, 40-pin LLP; PartNumber: DS25BR204TSQ; Manufacturer: National Semiconductor; PackageTopMarking: NS*UZXYTT*2BR204SQ; PowerWise: N; CompType: Interface IC; High-Reliability: Y; DatasheetVersion: Jan-2008; PackageVersion: revB, Mar-2004; PackageReference: SQA40A; PackageDescription: LLP, Plastic, Quad, 6 x 6 x 0.8mm Body, 40 Lead, 0.5mm Pitch, No Pullback; RoHS: Y; PinCount: 40; ComponentLink1Description: Manufacturer URL; ComponentLink1URL: http://www.national.com/; ComponentLink2Description: DS25BR204 Datasheet; ComponentLink2URL: http://www.national.com/ds/DS/DS25BR204.pdf; ComponentLink3Description: DS25BR204 Web Page; ComponentLink3URL: http://www.national.com/pf/DS/DS25BR204.html; ComponentLink4Description: SQA40A Package Page; ComponentLink4URL: http://www.national.com/packaging/folders/sqa40a.html
footprint SQA40A (QFN, 40-Leads, Body 6x6mm, Pitch 0.5mm, Thermal Pad 4.7x4.7mm, NSC Recommended)
pins: 1 NC, 2 NC, 3 VDD (power), 4 IN1+ (in), 5 IN1- (in), 6 IN2+ (in), 7 IN2- (in), 8 VDD (power), 9 NC, 10 NC, 11 EQ2 (in), 12 NC, 13 NC, 14 SEL_IN (in), 15 VDD (power), 16 GND (power), 17 NC, 18 PE3 (in), 19 PE2 (in), 20 PE1 (in), 21 OUT3- (out), 22 OUT3+ (out), 23 OUT2- (out), 24 OUT2+ (out), 25 VDD (power), 26 OUT1- (out), 27 OUT1+ (out), 28 OUT0- (out), 29 OUT0+ (out), 30 VDD (power), 31 PE0 (in), 32 ~{PWDN3} (in), 33 ~{PWDN2} (in), 34 ~{PWDN1} (in), 35 ~{PWDN0} (in), 36 ~{LOS2} (out), 37 ~{LOS1} (out), 38 ~{PWDN} (in), 39 EQ1 (in), 40 NC, 41 GND (power)

## DS25BR204TSQ/NOPB
designator U?
3.125 Gbps 1:4 LVDS Repeater with Transmit Pre-Emphasis and Receive Equalization, 40-pin LLP, Pb-Free; PartNumber: DS25BR204TSQ/NOPB; Manufacturer: National Semiconductor; PackageTopMarking: NS*UZXYTTE#*2BR204SQ; PowerWise: N; CompType: Interface IC; High-Reliability: Y; DatasheetVersion: Jan-2008; PackageVersion: revB, Mar-2004; PackageReference: SQA40A; PackageDescription: LLP, Plastic, Quad, 6 x 6 x 0.8mm Body, 40 Lead, 0.5mm Pitch, No Pullback; RoHS: Y; PinCount: 40; ComponentLink1Description: Manufacturer URL; ComponentLink1URL: http://www.national.com/; ComponentLink2Description: DS25BR204 Datasheet; ComponentLink2URL: http://www.national.com/ds/DS/DS25BR204.pdf; ComponentLink3Description: DS25BR204 Web Page; ComponentLink3URL: http://www.national.com/pf/DS/DS25BR204.html; ComponentLink4Description: SQA40A Package Page; ComponentLink4URL: http://www.national.com/packaging/folders/sqa40a.html
footprint SQA40A (QFN, 40-Leads, Body 6x6mm, Pitch 0.5mm, Thermal Pad 4.7x4.7mm, NSC Recommended)
pins: 1 NC, 2 NC, 3 VDD (power), 4 IN1+ (in), 5 IN1- (in), 6 IN2+ (in), 7 IN2- (in), 8 VDD (power), 9 NC, 10 NC, 11 EQ2 (in), 12 NC, 13 NC, 14 SEL_IN (in), 15 VDD (power), 16 GND (power), 17 NC, 18 PE3 (in), 19 PE2 (in), 20 PE1 (in), 21 OUT3- (out), 22 OUT3+ (out), 23 OUT2- (out), 24 OUT2+ (out), 25 VDD (power), 26 OUT1- (out), 27 OUT1+ (out), 28 OUT0- (out), 29 OUT0+ (out), 30 VDD (power), 31 PE0 (in), 32 ~{PWDN3} (in), 33 ~{PWDN2} (in), 34 ~{PWDN1} (in), 35 ~{PWDN0} (in), 36 ~{LOS2} (out), 37 ~{LOS1} (out), 38 ~{PWDN} (in), 39 EQ1 (in), 40 NC, 41 GND (power)

## DS25BR204TSQX/NOPB
designator U?
3.125 Gbps 1:4 LVDS Repeater with Transmit Pre-Emphasis and Receive Equalization, 40-pin LLP, Pb-Free; PartNumber: DS25BR204TSQX/NOPB; Manufacturer: National Semiconductor; PackageTopMarking: NS*UZXYTTE#*2BR204SQ; PowerWise: N; CompType: Interface IC; High-Reliability: Y; DatasheetVersion: Jan-2008; PackageVersion: revB, Mar-2004; PackageReference: SQA40A; PackageDescription: LLP, Plastic, Quad, 6 x 6 x 0.8mm Body, 40 Lead, 0.5mm Pitch, No Pullback; RoHS: Y; PinCount: 40; ComponentLink1Description: Manufacturer URL; ComponentLink1URL: http://www.national.com/; ComponentLink2Description: DS25BR204 Datasheet; ComponentLink2URL: http://www.national.com/ds/DS/DS25BR204.pdf; ComponentLink3Description: DS25BR204 Web Page; ComponentLink3URL: http://www.national.com/pf/DS/DS25BR204.html; ComponentLink4Description: SQA40A Package Page; ComponentLink4URL: http://www.national.com/packaging/folders/sqa40a.html
footprint SQA40A (QFN, 40-Leads, Body 6x6mm, Pitch 0.5mm, Thermal Pad 4.7x4.7mm, NSC Recommended)
pins: 1 NC, 2 NC, 3 VDD (power), 4 IN1+ (in), 5 IN1- (in), 6 IN2+ (in), 7 IN2- (in), 8 VDD (power), 9 NC, 10 NC, 11 EQ2 (in), 12 NC, 13 NC, 14 SEL_IN (in), 15 VDD (power), 16 GND (power), 17 NC, 18 PE3 (in), 19 PE2 (in), 20 PE1 (in), 21 OUT3- (out), 22 OUT3+ (out), 23 OUT2- (out), 24 OUT2+ (out), 25 VDD (power), 26 OUT1- (out), 27 OUT1+ (out), 28 OUT0- (out), 29 OUT0+ (out), 30 VDD (power), 31 PE0 (in), 32 ~{PWDN3} (in), 33 ~{PWDN2} (in), 34 ~{PWDN1} (in), 35 ~{PWDN0} (in), 36 ~{LOS2} (out), 37 ~{LOS1} (out), 38 ~{PWDN} (in), 39 EQ1 (in), 40 NC, 41 GND (power)